# EAGLE library part SD2068 (library prj_snowmaker)
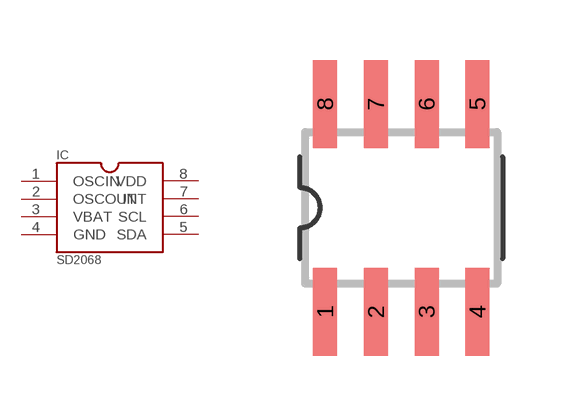
[diagram p11: symbol with the pads of SOIC-8; footprint SOIC-8]

Designator prefix IC

## SD2068  [SOIC-8]
1  OSCIN
2  OSCOUT
3  VBAT
4  GND  pwr
5  SDA
6  SCL
7  INT
8  VDD  pwr

## Footprint SOIC-8 (pad centres in mm)
Small Outline IC
smd 0.6 x 2.2: 1 -1.905,-2.6; 2 -0.635,-2.6; 3 0.635,-2.6; 4 1.905,-2.6; 5 1.905,2.6; 6 0.635,2.6; 7 -0.635,2.6; 8 -1.905,2.6